# EAGLE library part LA4485 (library Audio-Power-amlifier V.2.0)
The LA4485 is a 5 W, two-channel power amplifier IC that requires a minimum of external parts, making it ideal for radio cassette players and car stereo equipment. The LA4485 eliminates the need for bootstrap capacitors, negative feedback capacitors, and oscillation prevention CR parts, all of which were necessities for power ICs previously. All of these functions are now on chip, keeping the number of external parts to an absolute minimum. The LA4485 is part of the Power (Stylish Power) Series, and supports two modes: dual and BTL.
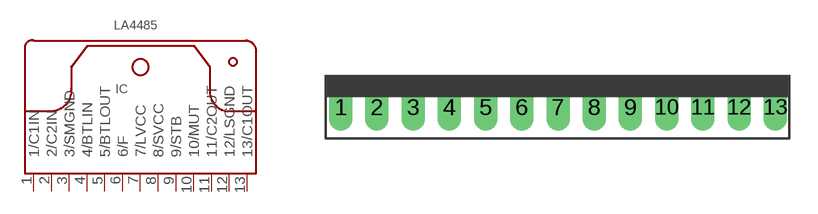
[diagram p71: symbol with the pads of HSIP13H-3107; footprint HSIP13H-3107]

Designator prefix IC

## LA4485  [HSIP13H-3107]
1  1/C1IN  in
2  2/C2IN  in
3  3/SMGND  pwr
4  4/BTLIN  in
5  5/BTLOUT  out
6  6/F
7  7/LVCC  pwr
8  8/SVCC  pwr
9  9/STB
10  10/MUT
11  11/C2OUT  out
12  12/LSGND  pwr
13  13/C1OUT  out

## Footprint HSIP13H-3107 (pad centres in mm)
drill 0.8 long: 1 -11.97,-1.27; 2 -9.97,-1.27; 3 -7.97,-1.27; 4 -5.97,-1.27; 5 -3.97,-1.27; 6 -1.97,-1.27; 7 0.03,-1.27; 8 2.03,-1.27; 9 4.03,-1.27; 10 6.03,-1.27; 11 8.03,-1.27; 12 10.03,-1.27; 13 12.03,-1.27